# EAGLE library part L6234 (library JCM)
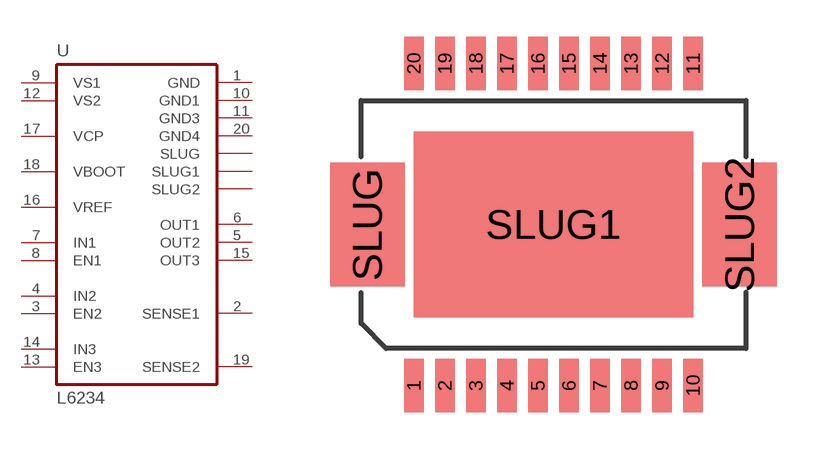
[diagram p10: symbol with the pads of SO20POWER; footprint SO20POWER]

Designator prefix -

## L6234  [SO20POWER]
1  GND  pwr
2  SENSE1  oc
3  EN2  in
4  IN2  in
5  OUT2  out
6  OUT1  out
7  IN1  in
8  EN1
9  VS1  pwr
10  GND1  pwr
11  GND3  pwr
12  VS2  pwr
13  EN3  in
14  IN3
15  OUT3  out
16  VREF  pwr
17  VCP  pwr
18  VBOOT  pwr
19  SENSE2  oc
20  GND4  pwr
SLUG  SLUG1  pwr
SLUG1  SLUG2  pwr
SLUG2  SLUG  pwr

## Footprint SO20POWER (pad centres in mm)
PowerSO20, Version 2: increased slug pads SLUG1, SLUG3 for prototyping / manual soldering issues
smd 0.8 x 2.2: 1 -5.715,-6.6; 2 -4.445,-6.6; 3 -3.175,-6.6; 4 -1.905,-6.6; 5 -0.635,-6.6; 6 0.635,-6.6; 7 1.905,-6.6; 8 3.175,-6.6; 9 4.445,-6.6; 10 5.715,-6.6; 11 5.715,6.6; 12 4.445,6.6; 13 3.175,6.6; 14 1.905,6.6; 15 0.635,6.6; 16 -0.635,6.6; 17 -1.905,6.6; 18 -3.175,6.6; 19 -4.445,6.6; 20 -5.715,6.6
smd 3.048 x 5.08: SLUG -7.62,0; SLUG2 7.62,0
smd 11.43 x 7.62: SLUG1 0,0